# Altium footprint library Lib Marius.PcbLib: 393 footprints (part 2 of 25)
Each footprint in its own frame and in the unit in brackets; x right, y up, seen from the top. Pads: shape width x height; smd on the part's side, far side on the other; paste and mask are expansions set on the pad; w line width, h text height; cw(c..) or ccw(c..) is an arc to the next point about the centre after c.
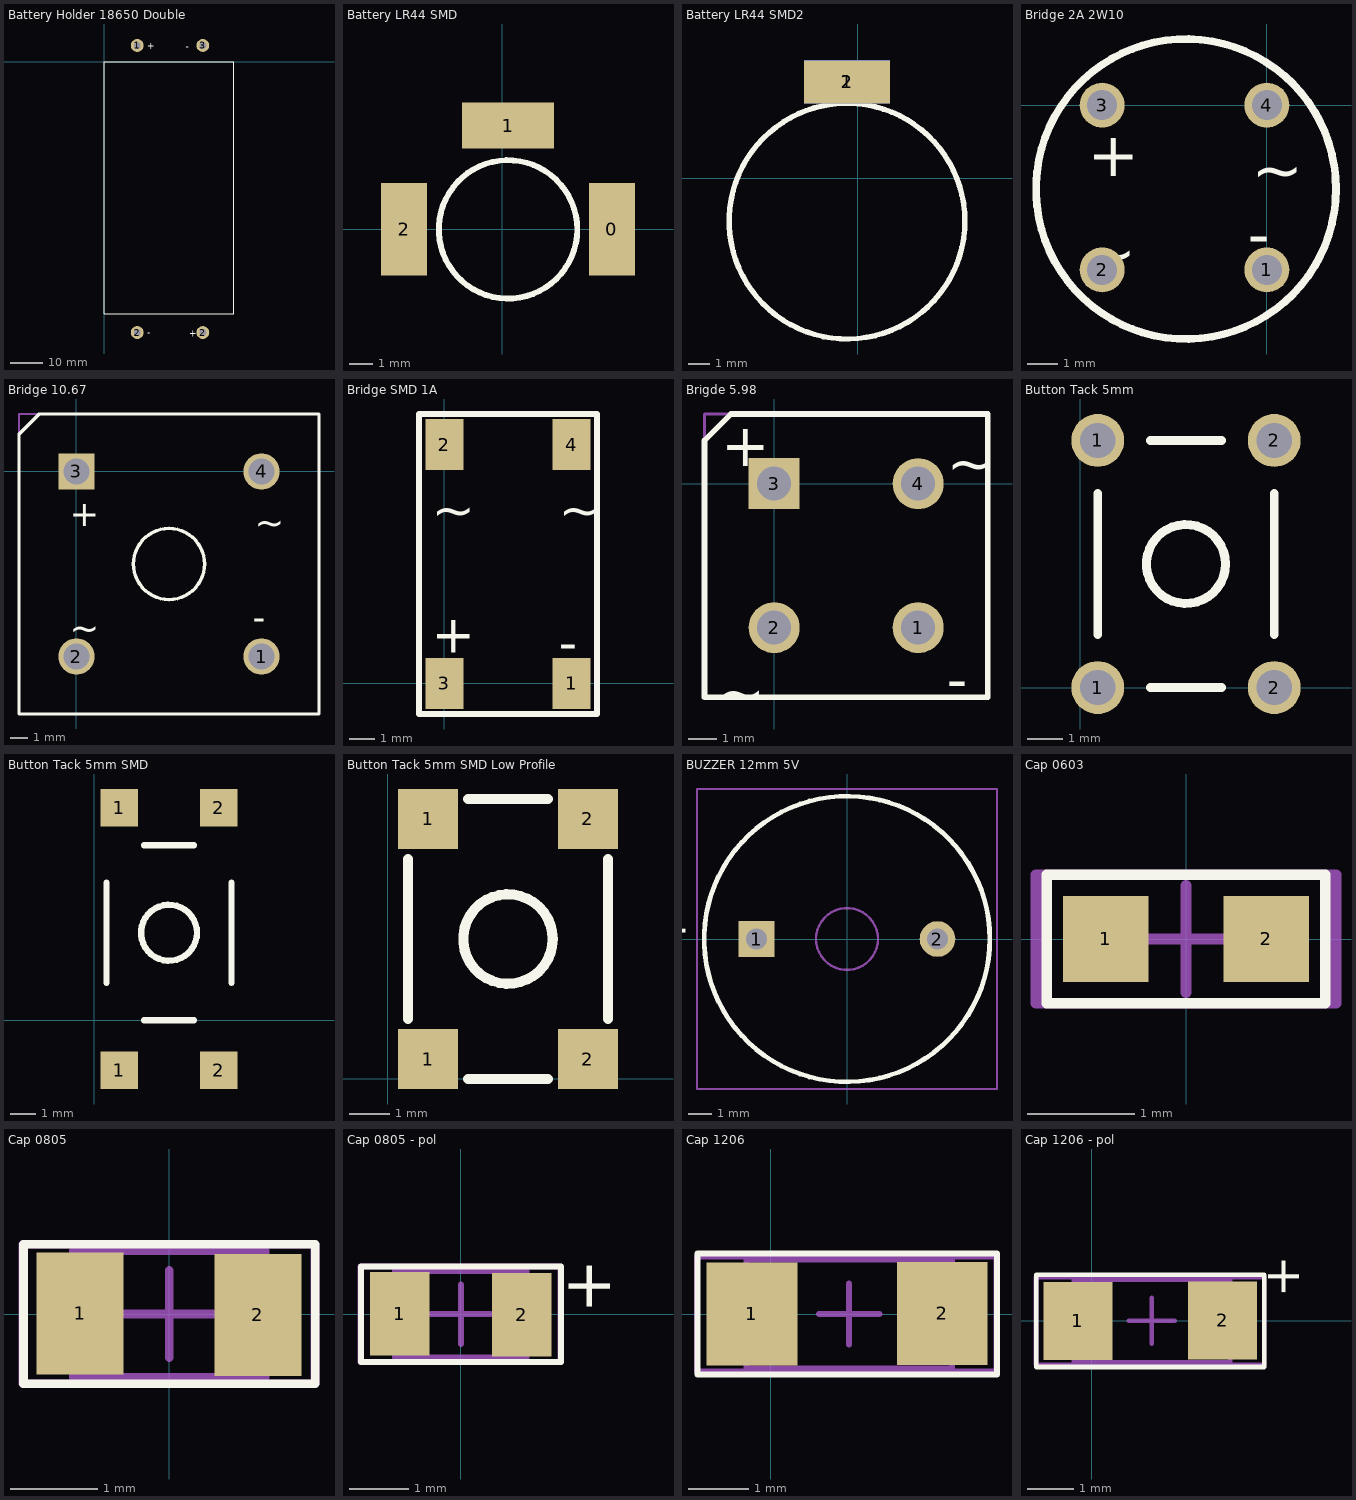
[diagram p1: the footprints below, top view; thin cyan lines are the x and y axes]

## Battery Holder 18650 Double [mm] "Double 18650 Lithium battery holder"
height 1.524
pads (4):
  round 4 hole 2: 1(10.16,5.08) 2(10.16,-83.82) 2(30.48,-83.82) 3(30.48,5.08)
Top Overlay:
  lines w0.254: 0,-78 0,0 40,0 40,-78 0,-78
  text "+" at 26.254,-85.079 h2
  text "-" at 13.254,-84.746 h2
  text "-" at 25.254,3.746 h2
  text "+" at 13.254,3.921 h2

## Battery LR44 SMD [mm] "Axial Device, Thru-Hole; 2 Leads; 7.5mm Pin Spacing"
height 1.524
pads (3):
  rect 2x4 smd: 0(4.75,0) 2(-4.25,0)
  rect 4x2 smd: 1(0.25,4.5)
Top Overlay:
  circle w0.254: c0.25,0 r3
3D body: height 3.6, standoff -0.4, extent 3.75,-2 4.25,2
3D body: height 0, standoff -0.4, extent 3.75,-2 5.75,2
3D body: height 3.6, standoff 3.2, extent -3.75,-2 3.75,2
3D body: height 0, standoff -0.4, extent -1.75,-2.5 2.25,5.5
3D body: height 0, standoff -0.4, extent -5.25,-2 -3.25,2
3D body: height 3.6, standoff -0.4, extent -3.75,-2 -3.25,2

## Battery LR44 SMD2 [mm] "Axial Device, Thru-Hole; 2 Leads; 7.5mm Pin Spacing"
height 1.524
pads (2):
  rect 4x2 smd: 1(-0.5,4.5)
  rect 4x2 smd far side: 2(-0.5,4.5)
Top Overlay:
  circle w0.254: c-0.5,-2 r5.5
3D body: height 3.6, standoff 3.2, extent -2.5,-2 1.5,5.5
3D body: height 0, standoff -0.4, extent -2.5,-2.5 1.5,5.5
3D body: height 0, standoff -0.4, extent -2.5,3.5 1.5,5.5

## Bridge 2A 2W10 [mm] "Axial Device, Thru-Hole; 2 Leads; 10.2mm Pin Spacing"
height 2.032
pads (4):
  round 1.5 hole 1: 1(0,-5.5) 2(-5.5,-5.5) 3(-5.5,0) 4(0,0)
Top Overlay:
  lines w0.254: 2.309,-2.8 ccw(c-2.7,-2.8) 2.309,-2.8
  text "-" at -0.64,-5.044 h1.5
  text "~" at -0.5,-2.9 h1.5
  text "~" at -6.088,-5.672 h1.5
  text "+" at -5.988,-2.368 h1.5
3D body: height 0, standoff -5.5, extent -7.76,-7.69 2.2,2.29

## Bridge 10.67 [mm] "Bridge Rectifier; 4 Terminals; Body 16.8 x 16.8 mm (typ); Pitch 10.67 mm"
height 6.35
pads (4):
  round 2.1 hole 1.5: 1(10.67,-10.67) 2(0,-10.67) 4(10.67,0)
  rect 2.1x2.1 hole 1.5: 3(0,0)
Top Overlay:
  circle w0.2: c5.335,-5.335 r2.05
  lines w0.2: -3.315,-13.985 13.985,-13.985 13.985,3.315 -2.139,3.315 -3.315,2.139 -3.315,-13.985
  text "~" at -0.388,-9.772 h1.5
  text "~" at 10.28,-3.676 h1.5
  text "-" at 10.16,-9.144 h1.5
  text "+" at -0.388,-3.168 h1.5
Mechanical 13:
  lines w0.1: -3.315,-13.985 -3.315,3.315 13.985,3.315 13.985,-13.985 -3.315,-13.985
3D body: height 6.35, standoff 0, extent -3.315,-13.985 13.985,3.315

## Bridge SMD 1A [mm] "SMD DFS"
height 2.032
pads (4):
  rect 1.5x2 smd: 1(5,0) 2(0,9.4) 3(0,0) 4(5,9.4)
Top Overlay:
  lines w0.254: -1,-1.2 6,-1.2 6,10.6 -1,10.6 -1,-1.2
  text "-" at 4.5,0.9 h1.5
  text "~" at 4.5,6.1 h1.5
  text "~" at -0.5,6.1 h1.5
  text "+" at -0.5,1.2 h1.5
3D body "DF1501S.STEP": height 3, standoff 0, extent 0.25,1.3 4.95,8.1

## Brigde 5.98 [mm] "Bridge Rectifier; 4 Terminals; Body 9.4 x 9.4 mm (typ); Pitch 5.08 mm"
height 9.91
pads (4):
  round 1.8 hole 1.2: 1(5.08,-5.08) 2(0,-5.08) 4(5.08,0)
  rect 1.8x1.8 hole 1.2: 3(0,0)
Top Overlay:
  lines w0.2: -2.46,-7.54 7.54,-7.54 7.54,2.46 -1.524,2.46 -2.46,1.524 -2.46,-7.54
  text "~" at 6.096,0 h1.5
  text "~" at -2.032,-8.128 h1.5
  text "-" at 6.096,-7.62 h1.5
  text "+" at -1.87,0.624 h1.5
Mechanical 13:
  lines w0.1: -2.46,-7.54 7.54,-7.54 7.54,2.46 -2.46,2.46 -2.46,-7.54
3D body: height 9.91, standoff 0, extent -2.46,-7.54 7.54,2.46

## Button Tack 5mm [mm] "Axial Device, Thru-Hole; 2 Leads; 10.2mm Pin Spacing"
height 2.032
pads (4):
  round 1.5 hole 1: 1(0.5,0) 1(0.5,7) 2(5.5,0) 2(5.5,7)
Top Overlay:
  lines w0.254: 0.5,1.5 0.5,5.5 ; 2,0 4,0 ; 2,7 4,7 ; 5.5,1.5 5.5,5.5 ; 4.118,3.5 ccw(c3,3.5) 4.118,3.5
3D body "Button Tack 5mm.step": height 9.5, standoff -3.5, extent 0,-0.606 6,7.606

## Button Tack 5mm SMD [mm] "Axial Device, Thru-Hole; 2 Leads; 10.2mm Pin Spacing"
height 2.032
pads (4):
  rect 1.5x1.5 smd: 1(1,-2) 1(1,8.5) 2(5,-2) 2(5,8.5)
Top Overlay:
  lines w0.254: 0.5,1.5 0.5,5.5 ; 2,0 4,0 ; 2,7 4,7 ; 5.5,1.5 5.5,5.5 ; 4.118,3.5 ccw(c3,3.5) 4.118,3.5
3D body "Button Tack 5mm SMD.step": height 4.83, standoff 0, extent -0.111,-2 6.111,8.668

## Button Tack 5mm SMD Low Profile [mm] "Axial Device, Thru-Hole; 2 Leads; 10.2mm Pin Spacing"
height 2.032
pads (4):
  rect 1.5x1.5 smd: 1(1,0.5) 1(1,6.5) 2(5,0.5) 2(5,6.5)
Top Overlay:
  lines w0.254: 0.5,1.5 0.5,5.5 ; 2,0 4,0 ; 2,7 4,7 ; 5.5,1.5 5.5,5.5 ; 4.118,3.5 ccw(c3,3.5) 4.118,3.5
3D body "Button Tack 5mm SMD Low Profile.step": height 1.5, standoff 0, extent 0.4,0.3 5.6,6.7

## BUZZER 12mm 5V [mm] "Buzzer 12mm"
pads (2):
  rect 1.5x1.5 hole 0.9: 1(-3.8,0)
  round 1.5 hole 0.9: 2(3.8,0)
Top Overlay:
  circle w0.2: c0,0 r6
  text "+" at -6.3,-0.5 h2.5
Mechanical 13:
  circle w0.1: c0,0 r6
  circle w0.1: c0,0 r1.3
Mechanical 15:
  lines w0.1: -6.3,-6.3 6.3,-6.3 6.3,6.3 -6.3,6.3 -6.3,-6.3
3D body: height 9.5, standoff 0, extent -5.999,-5.999 5.999,5.999
3D body: height 9.55, standoff 7, extent -1.299,-1.299 1.299,1.299

## Cap 0603 [mm] "Capacitor 0603"
height 0.5
pads (2):
  rect 0.8x0.8 smd: 1(-0.75,0) 2(0.75,0)
Top Overlay:
  lines w0.1: -1.3,-0.6 1.3,-0.6 1.3,0.6 -1.3,0.6 -1.3,-0.6
Mechanical 1:
  lines w0.1: -1.3,-0.6 -1.3,0.6 ; 1.3,-0.6 1.3,0.6
Mechanical 13:
  lines w0.1: -1.3,-0.6 1.3,-0.6 ; -1.3,0.6 1.3,0.6
Mechanical 15:
  lines w0.1: -0.5,0 0.5,0 ; 0,-0.5 0,0.5 ; -1.4,-0.6 1.4,-0.6 1.4,0.6 -1.4,0.6 -1.4,-0.6
3D body "Cap 0603.STEP": height 0.79, standoff 0, extent -0.948,-0.384 1.052,0.403

## Cap 0805 [mm] "Capacitor 0805"
height 0.5
pads (2):
  rect 1x1.4 smd: 1(-1.022,0.007) 2(1.018,-0.011)
Top Overlay:
  lines w0.1: -1.669,-0.8 -1.669,0.8 1.676,0.8 1.676,-0.8 -1.669,-0.8
Mechanical 13:
  lines w0.1: -1.1,-0.725 1.1,-0.725 1.1,0.725 -1.1,0.725 -1.1,-0.725
Mechanical 15:
  lines w0.1: -0.5,0 0.5,0 ; 0,-0.5 0,0.5 ; -1.679,-0.8 1.671,-0.8 1.671,0.8 -1.679,0.8 -1.679,-0.8
3D body "Cap 0805.STEP": height 0.79, standoff 0, extent -1.254,-0.622 1.254,0.622

## Cap 0805 - pol [mm] "Capacitor 0805"
height 0.5
pads (2):
  rect 1x1.4 smd: 1(-1.022,0.007) 2(1.018,-0.011)
Top Overlay:
  lines w0.1: -1.669,-0.8 -1.669,0.8 1.676,0.8 1.676,-0.8 -1.669,-0.8
  text "+" at 2.5,0.007 h0.8
Mechanical 13:
  lines w0.1: -1.1,-0.725 1.1,-0.725 1.1,0.725 -1.1,0.725 -1.1,-0.725
Mechanical 15:
  lines w0.1: -0.5,0 0.5,0 ; 0,-0.5 0,0.5 ; -1.679,-0.8 1.671,-0.8 1.671,0.8 -1.679,0.8 -1.679,-0.8
3D body "Cap 0805.STEP": height 0.79, standoff 0, extent -1.254,-0.622 1.254,0.622

## Cap 1206 [mm] "Capacitor 1206"
height 0.5
pads (2):
  rect 1.5x1.7 smd: 1(-0.307,0) 2(2.838,0.01)
Top Overlay:
  lines w0.1: -1.207,-1 -1.207,1 3.743,1 3.743,-1 -1.207,-1
Mechanical 13:
  lines w0.1: -0.4,-0.9 3,-0.9 3,0.9 -0.4,0.9 -0.4,-0.9
Mechanical 15:
  lines w0.1: 0.8,0 1.8,0 ; 1.3,-0.5 1.3,0.5 ; -1.216,-0.95 3.739,-0.95 3.739,0.95 -1.216,0.95 -1.216,-0.95
3D body "Cap 1206.STEP": height 1.53, standoff 0, extent -0.793,-0.814 3.208,0.787

## Cap 1206 - pol [mm] "Capacitor 1206"
height 0.5
pads (2):
  rect 1.5x1.7 smd: 1(-0.307,0) 2(2.838,0.01)
Top Overlay:
  lines w0.1: -1.207,-1 -1.207,1 3.743,1 3.743,-1 -1.207,-1
  text "+" at 4.5,0.5 h0.8
Mechanical 13:
  lines w0.1: -0.4,-0.9 3,-0.9 3,0.9 -0.4,0.9 -0.4,-0.9
Mechanical 15:
  lines w0.1: 0.8,0 1.8,0 ; 1.3,-0.5 1.3,0.5 ; -1.216,-0.95 3.739,-0.95 3.739,0.95 -1.216,0.95 -1.216,-0.95
3D body "Cap 1206.STEP": height 1.53, standoff 0, extent -0.793,-0.814 3.208,0.787